# EAGLE library part BNO055 (library Micromouse 2020)
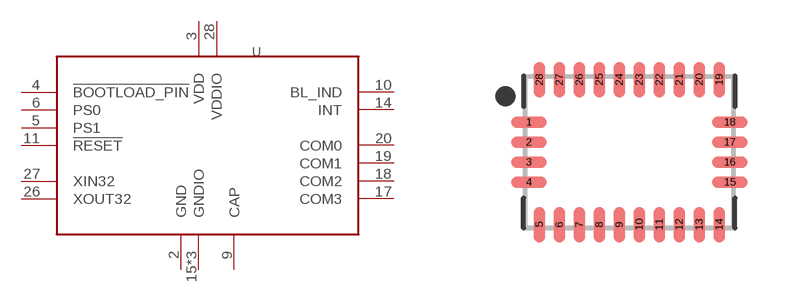
[diagram p0: symbol with the pads of BNO055; footprint BNO055]

Designator prefix U

## BNO055  [BNO055]
2  GND  pas
3  VDD  pwr
4  !BOOTLOAD_PIN  in
5  PS1  in
6  PS0  in
9  CAP  pas
10  BL_IND  out
11  !RESET  in
14  INT  out
15  GNDIO  pas
16  GNDIO  pas
17  COM3  out
18  COM2
19  COM1
20  COM0
25  GNDIO  pas
26  XOUT32  out
27  XIN32  in
28  VDDIO  pwr

## Footprint BNO055 (pad centres in mm)
28-QFN, 0.50 mm pitch, 3.80 X 5.20 X 1.18 mm body 28-pin QFN package with 0.50 mm pitch with body size 3.80 X 5.20 X 1.18 mm
smd 0.887 x 0.282: 1 -2.513,0.75; 2 -2.513,0.25; 3 -2.513,-0.25; 4 -2.513,-0.75; 15 2.513,-0.75; 16 2.513,-0.25; 17 2.513,0.25; 18 2.513,0.75
smd 0.282 x 0.887: 5 -2.25,-1.812; 6 -1.75,-1.812; 7 -1.25,-1.812; 8 -0.75,-1.812; 9 -0.25,-1.812; 10 0.25,-1.812; 11 0.75,-1.812; 12 1.25,-1.812; 13 1.75,-1.812; 14 2.25,-1.812; 19 2.25,1.812; 20 1.75,1.812; 21 1.25,1.812; 22 0.75,1.812; 23 0.25,1.812; 24 -0.25,1.812; 25 -0.75,1.812; 26 -1.25,1.812; 27 -1.75,1.812; 28 -2.25,1.812